# Altium footprint library MyLibrary.PcbLib: 16 footprints
Each footprint in its own frame and in the unit in brackets; x right, y up, seen from the top. Pads: shape width x height; smd on the part's side, far side on the other; paste and mask are expansions set on the pad; w line width, h text height; cw(c..) or ccw(c..) is an arc to the next point about the centre after c.
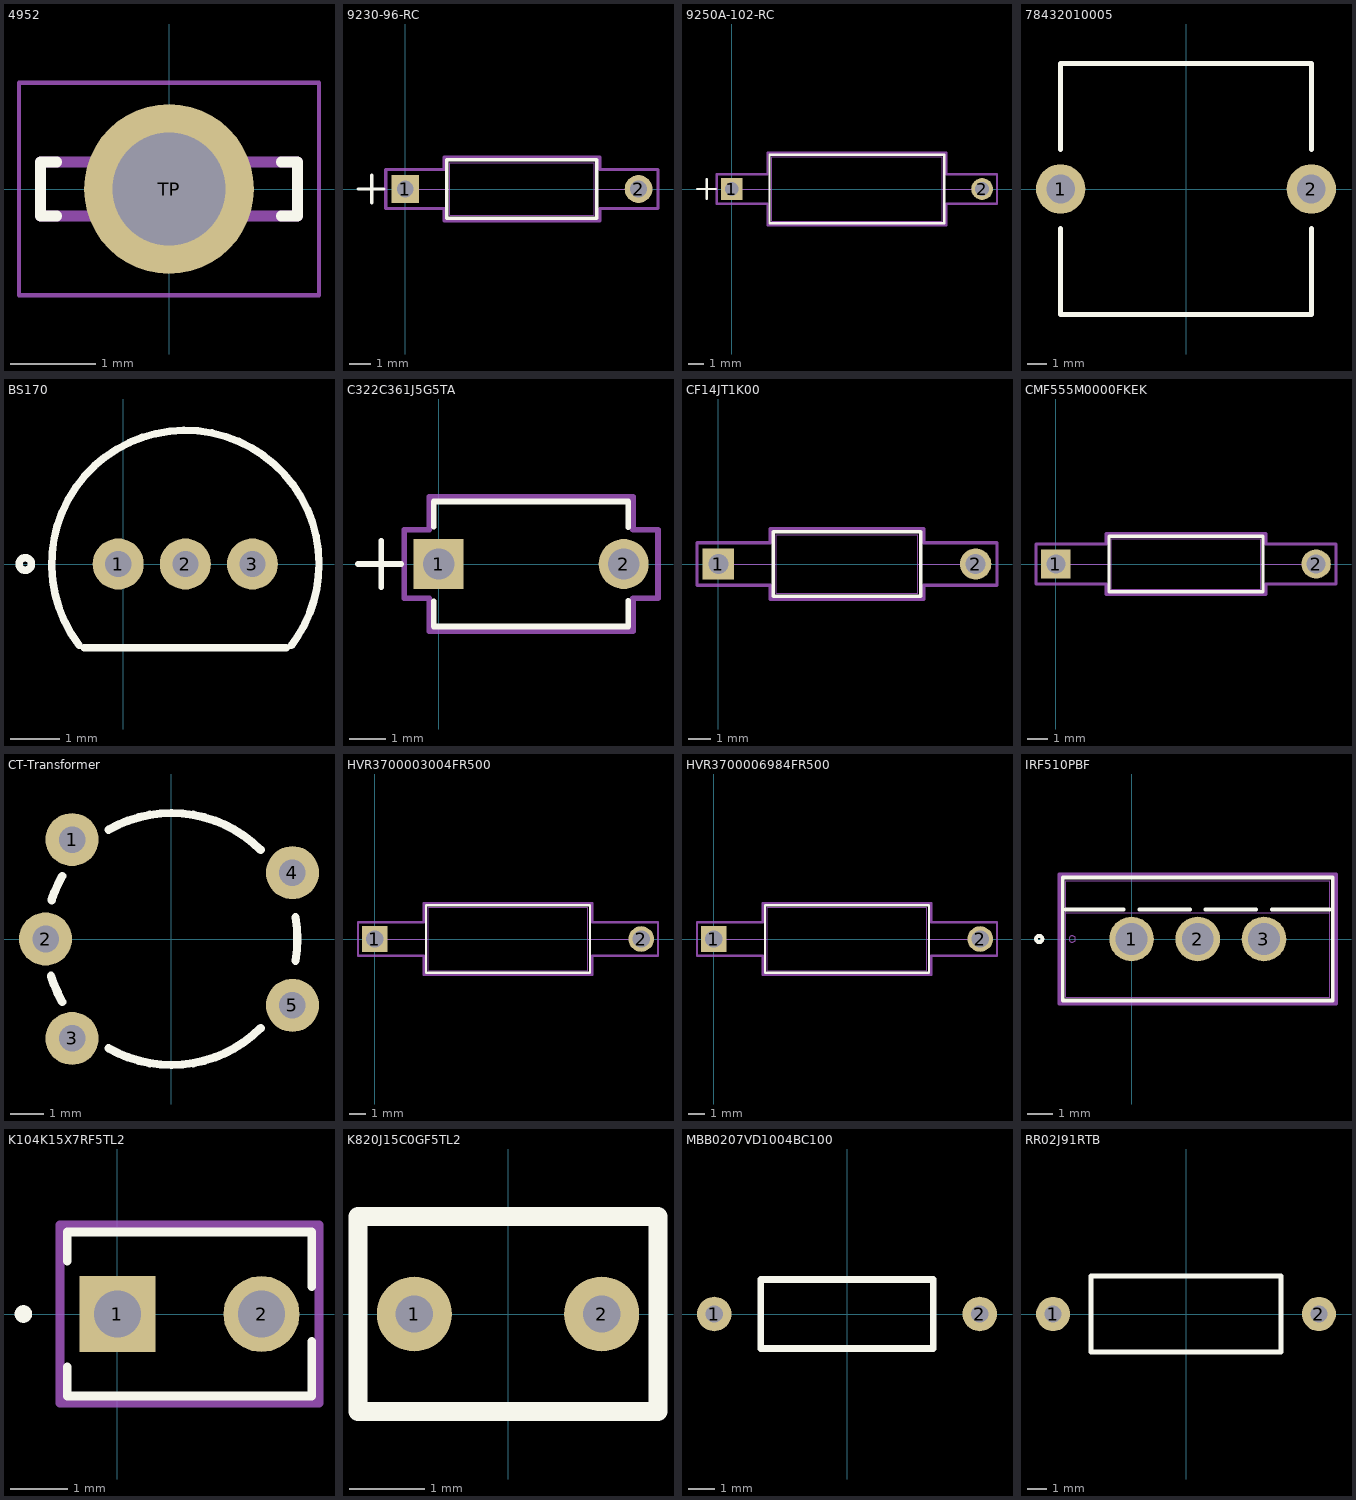
[diagram p0: the footprints below, top view; thin cyan lines are the x and y axes]

## 4952 [mm] "Test Point"
height 6.3
pads (1):
  round 1.98 hole 1.32: TP(0,0)
Top Overlay:
  lines w0.127: -1.31,-0.315 -1.5,-0.315 -1.5,0.315 -1.31,0.315 ; 1.31,-0.315 1.5,-0.315 1.5,0.315 1.31,0.315
Mechanical 13:
  lines w0.127: -1.5,-0.315 1.5,-0.315 1.5,0.315 -1.5,0.315 -1.5,-0.315
Mechanical 15:
  lines w0.05: -1.75,-1.24 -1.75,1.24 1.75,1.24 1.75,-1.24 -1.75,-1.24

## 9230-96-RC [mil]
pads (2):
  rect 50x50 hole 30 mask+0: 1(0,0)
  round 50 hole 30 mask+0: 2(420,0)
Top Overlay:
  lines w6: -85,0 -38.1,0 ; -60,-25 -60,25 ; 75,-52.5 345,-52.5 345,52.5 75,52.5 75,-52.5
Mechanical 13:
  lines w1: -85,0 -35,0 ; -60,-25 -60,25 ; 0,0 80,0 ; 340,0 420,0 ; 80,-47.5 340,-47.5 340,47.5 80,47.5 80,-47.5
Mechanical 15:
  lines w6: -35,-35 -35,35 70,35 70,57.5 350,57.5 350,35 455,35 455,-35 350,-35 350,-57.5 70,-57.5 70,-35 -35,-35
3D body "IND_BOURNS_9230.step": height 95.04, standoff -100, extent -10,-47.25 430,47.25

## 9250A-102-RC [mil]
pads (2):
  rect 55x55 hole 35 mask+0: 1(0,0)
  round 55 hole 35 mask+0: 2(630,0)
Top Overlay:
  lines w6: -87.5,0 -40.6,0 ; -62.5,-25 -62.5,25 ; 95,-86 95,86 535,86 535,-86 95,-86
Mechanical 13:
  lines w1: -87.5,0 -37.5,0 ; -62.5,-25 -62.5,25 ; 0,0 100,0 ; 530,0 630,0 ; 100,-81 100,81 530,81 530,-81 100,-81
Mechanical 15:
  lines w6: -37.5,-37.5 90,-37.5 90,-91 540,-91 540,-37.5 667.5,-37.5 667.5,37.5 540,37.5 540,91 90,91 90,37.5 -37.5,37.5 -37.5,-37.5
3D body "IND_BOURNS_9250A.step": height 162.05, standoff -100, extent -12.48,-80.88 642.48,80.88

## 78432010005 [mm]
pads (2):
  round 2.5 hole 1.45: 1(-6.35,0) 2(6.35,0)
Top Overlay:
  lines w0.254: -6.35,-2 -6.35,-6.35 6.35,-6.35 6.35,-2 ; -6.35,2 -6.35,6.35 6.35,6.35 6.35,2

## BS170 [mil]
pads (3):
  round 41 hole 21 mask+0: 1(-3.94,0) 2(50,0) 3(103.94,0)
Top Overlay:
  circle w6: c-78.74,0 r5
  lines w6: -35.2,-65.55 cw(c50,0) 157.5,0 cw(c50,0) 135.2,-65.55 ; -31.24,-67.5 131.24,-67.5

## C322C361J5G5TA [mil]
pads (2):
  rect 54x54 hole 34 mask+0: 1(0,0)
  round 54 hole 34 mask+0: 2(200,0)
Top Overlay:
  lines w6: -87,0 -40.1,0 ; -62,-25 -62,25 ; -5,-40.1 -5,-67.5 205,-67.5 205,-39.79 ; -5,40.1 -5,67.5 205,67.5 205,39.79
Mechanical 13:
  lines w1: -87,0 -37,0 ; -62,-25 -62,25
Mechanical 15:
  lines w6: -37,-37 -37,37 -10,37 -10,72.5 210,72.5 210,37 237,37 237,-37 210,-37 210,-72.5 -10,-72.5 -10,-37 -37,-37
3D body: height 10, standoff 0, extent 0,0 10,10

## CF14JT1K00 [mil]
pads (2):
  rect 55x55 hole 35 mask+0: 1(0,0)
  round 55 hole 35 mask+0: 2(450,0)
Top Overlay:
  lines w6: 96,-56.5 354,-56.5 354,56.5 96,56.5 96,-56.5
Mechanical 13:
  lines w1: 0,0 101,0 ; 349,0 450,0 ; 101,-51.5 349,-51.5 349,51.5 101,51.5 101,-51.5
Mechanical 15:
  lines w6: -37.5,-37.5 -37.5,37.5 91,37.5 91,61.5 359,61.5 359,37.5 487.5,37.5 487.5,-37.5 359,-37.5 359,-61.5 91,-61.5 91,-37.5 -37.5,-37.5
3D body "STA_CF14_STP.step": height 103, standoff -110, extent -12.48,-51.12 462.48,51.12

## CMF555M0000FKEK [mil]
pads (2):
  rect 57x57 hole 37 mask+0: 1(0,0)
  round 57 hole 37 mask+0: 2(506,0)
Top Overlay:
  lines w6: 103,-54 103,54 403,54 403,-54 103,-54
Mechanical 13:
  lines w1: 0,0 108,0 ; 398,0 506,0 ; 108,-49 108,49 398,49 398,-49 108,-49
Mechanical 15:
  lines w6: -38.5,-38.5 98,-38.5 98,-59 408,-59 408,-38.5 544.5,-38.5 544.5,38.5 408,38.5 408,59 98,59 98,38.5 -38.5,38.5 -38.5,-38.5
3D body "CMF55_VIS.step": height 98.02, standoff -110, extent -13.5,-48.64 519.49,48.64

## CT-Transformer [mm]
pads (5):
  round 1.6 hole 0.8: 1(-3,3) 2(-3.8,0) 3(-3,-3) 4(3.65,2) 5(3.65,-2)
Top Overlay:
  lines w0.254: -3.634,-1.111 ccw(c0,0) -3.291,-1.9 ; -3.614,1.174 cw(c0,0) -3.291,1.9 ; -1.9,-3.291 ccw(c0,0) 2.687,-2.687 ; -1.9,3.291 cw(c0,0) 2.687,2.687 ; 3.742,-0.66 ccw(c0,0) 3.742,0.66

## HVR3700003004FR500 [mil]
pads (2):
  rect 63x63 hole 43 mask+0: 1(0,0)
  round 63 hole 43 mask+0: 2(656,0)
Top Overlay:
  lines w6: 126,-83.5 530,-83.5 530,83.5 126,83.5 126,-83.5
Mechanical 13:
  lines w1: 0,0 131,0 ; 525,0 656,0 ; 131,-78.5 525,-78.5 525,78.5 131,78.5 131,-78.5
Mechanical 15:
  lines w6: -41.5,-41.5 -41.5,41.5 121,41.5 121,88.5 535,88.5 535,41.5 697.5,41.5 697.5,-41.5 535,-41.5 535,-88.5 121,-88.5 121,-41.5 -41.5,-41.5
3D body "RES_VISHAY_HVR37_VIS.step": height 156.54, standoff -100, extent -16.5,-78.38 672.52,78.38

## HVR3700006984FR500 [mil]
pads (2):
  rect 63x63 hole 43 mask+0: 1(0,0)
  round 63 hole 43 mask+0: 2(656,0)
Top Overlay:
  lines w6: 126,-83.5 530,-83.5 530,83.5 126,83.5 126,-83.5
Mechanical 13:
  lines w1: 0,0 131,0 ; 525,0 656,0 ; 131,-78.5 525,-78.5 525,78.5 131,78.5 131,-78.5
Mechanical 15:
  lines w6: -41.5,-41.5 -41.5,41.5 121,41.5 121,88.5 535,88.5 535,41.5 697.5,41.5 697.5,-41.5 535,-41.5 535,-88.5 121,-88.5 121,-41.5 -41.5,-41.5
3D body "RES_VISHAY_HVR37_VIS.step": height 156.54, standoff -100, extent -16.5,-78.38 672.52,78.38

## IRF510PBF [mil]
pads (3):
  round 70 hole 50 mask+0: 1(0,0) 2(103.94,0) 3(207.87,0)
Top Overlay:
  circle w6: c-145,0 r5
  lines w6: -103.06,46.5 -12.3,46.5 ; 12.3,46.5 91.63,46.5 ; 116.24,46.5 195.57,46.5 ; 220.18,46.5 310.94,46.5 ; -108.06,-96.5 -108.06,96.5 315.94,96.5 315.94,-96.5 -108.06,-96.5
Mechanical 13:
  circle w0: c-93.06,0 r5
  lines w1: -103.06,41.5 310.94,41.5 ; -103.06,-91.5 -103.06,91.5 310.94,91.5 310.94,-91.5 -103.06,-91.5
  text "TAB" at 85.19,54 h25
Mechanical 15:
  lines w6: -113.06,-101.5 320.94,-101.5 320.94,101.5 -113.06,101.5 -113.06,-101.5
3D body "TO220AB_VIS.step": height 600, standoff -260, extent -104.02,-91.5 310,91.5

## K104K15X7RF5TL2 [mil]
pads (2):
  rect 52x52 hole 32 mask+0: 1(0,0)
  round 52 hole 32 mask+0: 2(98.43,0)
Top Overlay:
  circle w6: c-64.29,0 r3
  lines w6: -34.29,-36.15 -34.29,-56 132.71,-56 132.71,-18.79 ; -34.29,36.15 -34.29,56 132.71,56 132.71,18.79
Mechanical 13:
  circle w0: c-9.29,0 r3
Mechanical 15:
  lines w6: -39.29,-61 137.71,-61 137.71,61 -39.29,61 -39.29,-61
3D body "K104K15X7RF5TL2_VIS.step": height 157.01, standoff -165.98, extent -28.48,-50 128.48,51.97

## K820J15C0GF5TL2 [mm]
pads (2):
  round 1 hole 0.5: 1(-1.25,0) 2(1.25,0)
Top Overlay:
  lines w0.254: -2,-1.3 -2,1.3 2,1.3 2,-1.3 -2,-1.3

## MBB0207VD1004BC100 [mm]
pads (2):
  round 1.3 hole 0.65: 1(-5,0) 2(5,0)
Top Overlay:
  lines w0.254: -3.25,-1.3 -3.25,1.3 3.25,1.3 3.25,-1.3 -3.25,-1.3

## RR02J91RTB [mm]
pads (2):
  round 1.8 hole 0.9: 1(-7,0) 2(7,0)
Top Overlay:
  lines w0.254: -5,-2 5,-2 5,2 -5,2 -5,-2